# Altium footprint library 插座.PcbLib: 1 footprints
Each footprint in its own frame and in the unit in brackets; x right, y up, seen from the top. Pads: shape width x height; smd on the part's side, far side on the other; paste and mask are expansions set on the pad; w line width, h text height; cw(c..) or ccw(c..) is an arc to the next point about the centre after c.
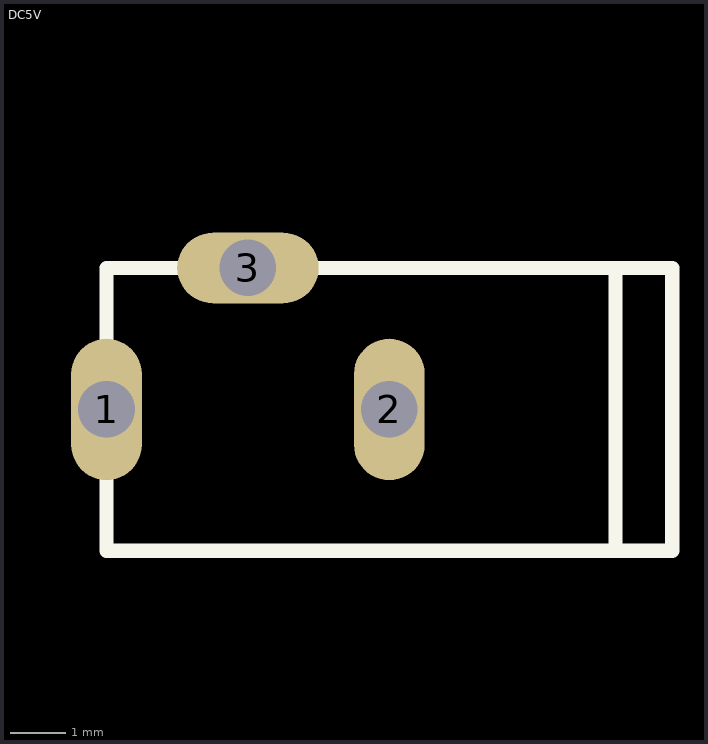
[diagram p0: the footprint, top view; thin cyan lines are the x and y axes]

## DC5V [mil] "DC 5.0V"
pads (3):
  oval 50x100 hole 40: 1(-33500,-32800) 2(-33300,-32800)
  oval 100x50 hole 40: 3(-33400,-32700)
Top Overlay:
  lines w10: -33140,-32900 -33140,-32700 ; -33500,-32900 -33500,-32700 -33100,-32700 -33100,-32900 -33500,-32900